# Altium schematic symbol library Standard Cap.SchLib: 1 symbol
Pins are listed as number, name and electrical type; pins without a type are passive.

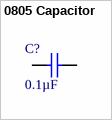
[diagram p0: symbol 0805 Capacitor]

## 0805 Capacitor
designator C?  value 0.1µF
Standard Capacitor; Tolerance (%): ±10%; Package Description: 2-Pin Surface Mount Device, Body 2.01 x 1.25 mm; Mounting Technology: SurfaceMount; Case Size/Dimension: 0805; Package Reference: 0805; Digikey URL: https://www.digikey.com/product-detail/en/kemet/C0805C104Z5VACTU/399-1177-1-ND/411452; ComponentLink2Description: Digi-Key_Purchase_URL; ComponentLink2URL: https://www.digikey.com/product-detail/en/kemet/C0805C104Z5VACTU/399-1177-1-ND/411452; ComponentLink3Description: Datasheet Link; ComponentLink3URL: https://content.kemet.com/datasheets/KEM_C1005_Y5V_SMD.pdf; Digi-Key_Part_Number: 399-1177-1-ND
footprint Cap 0805
pins: 1, 2